# Altium schematic symbol library IC Logic.SchLib: 17 symbols
Pins are listed as number, name and electrical type; pins without a type are passive.

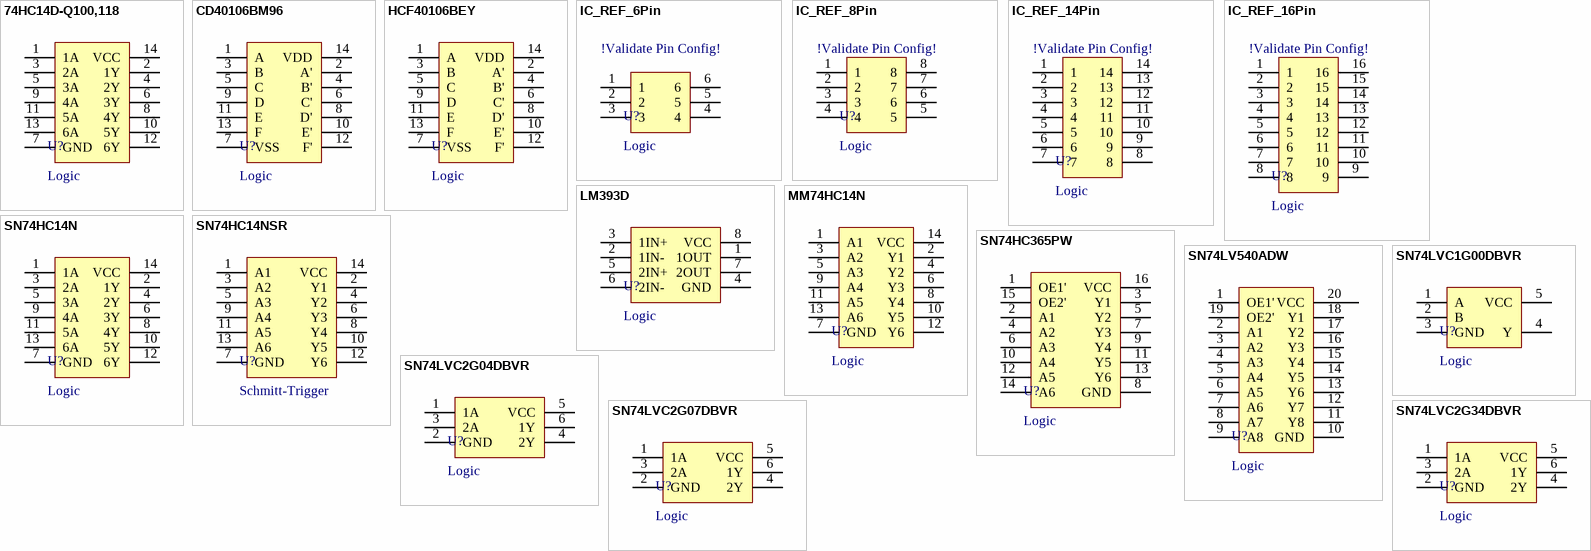
[diagram p0: symbols 74HC14D-Q100,118 to SN74LVC2G34DBVR]

## 74HC14D-Q100,118
designator U?, comment Logic
IC INVERTER SCHMITT 6CH 14SO; ManufacturerReference: 74HC14D-Q100,118; Manufacturer: Nexperia USA Inc.; InventoryNumber: IC053; Distributor: Digikey; DistributorReference: 1727-1029-1-ND; PackageReference: 14SOIC-3.9mmWidth
footprint 14SOIC-3.9mmWidth ON Semiconductor (SOIC, 14-Leads, Body 8.56x3.98mm, Pitch 1.27mm, IPC High Density)
pins: 1 1A, 2 1Y, 3 2A, 4 2Y, 5 3A, 6 3Y, 7 GND, 8 4Y, 9 4A, 10 5Y, 11 5A, 12 6Y, 13 6A, 14 VCC

## CD40106BM96
designator U?, comment Logic
IC INVERTER 6CH 6-INP 14SOIC; ManufacturerReference: CD40106BM96; Manufacturer: Texas Instruments; InventoryNumber: IC051; Distributor: Digikey; DistributorReference: 296-14081-2-ND; PackageReference: 14SOIC-3.9mmWidth
footprint 14SOIC-3.9mmWidth ON Semiconductor (SOIC, 14-Leads, Body 8.56x3.98mm, Pitch 1.27mm, IPC High Density)
pins: 1 A, 2 A', 3 B, 4 B', 5 C, 6 C', 7 VSS, 8 D', 9 D, 10 E', 11 E, 12 F', 13 F, 14 VDD

## HCF40106BEY
designator U?, comment Logic
IC INVERTER SCHMITT 6CH 14DIP; ManufacturerReference: HCF40106BEY; Manufacturer: STMicroelectronics; InventoryNumber: IC055; Distributor: Digikey; DistributorReference: 497-1342-5-ND; PackageReference: 14DIP-7.1mmWidth
footprint DIP14-7.1mmWidth STMicroelectronics
pins: 1 A, 2 A', 3 B, 4 B', 5 C, 6 C', 7 VSS, 8 D', 9 D, 10 E', 11 E, 12 F', 13 F, 14 VDD

## IC_REF_6Pin
designator U?, comment Logic
Distributor: Digikey; DistributorReference: *; InventoryNumber: *; PackageReference: *; ManufacturerReference: *; Manufacturer: *
pins: 1, 2, 3, 4, 5, 6
text: !Validate Pin Config!

## IC_REF_8Pin
designator U?, comment Logic
Distributor: Digikey; DistributorReference: *; InventoryNumber: *; PackageReference: *; ManufacturerReference: *; Manufacturer: *
pins: 1, 2, 3, 4, 5, 6, 7, 8
text: !Validate Pin Config!

## IC_REF_14Pin
designator U?, comment Logic
Distributor: Digikey; DistributorReference: *; InventoryNumber: *; PackageReference: *; ManufacturerReference: *; Manufacturer: *
pins: 1, 2, 3, 4, 5, 6, 7, 8, 9, 10, 11, 12, 13, 14
text: !Validate Pin Config!

## IC_REF_16Pin
designator U?, comment Logic
Distributor: Digikey; DistributorReference: *; InventoryNumber: *; PackageReference: *; ManufacturerReference: *; Manufacturer: *
pins: 1, 2, 3, 4, 5, 6, 7, 8, 9, 10, 11, 12, 13, 14, 15, 16
text: !Validate Pin Config!

## LM393D
designator U?, comment Logic
IC DUAL DIFF COMP 8-SOIC; ManufacturerReference: LMV393D; Manufacturer: Texas Instruments; InventoryNumber: IC209; Distributor: Digikey; DistributorReference: 296-1015-5-ND; PackageReference: 8SOIC-3.9mmWidth
footprint 8SOIC-3.9mmWidth (SOIC, 8-Leads, Body 4.90x3.90mm, Pitch 1.27mm, IPC High Density)
pins: 1 1OUT, 2 1IN-, 3 1IN+, 4 GND, 5 2IN+, 6 2IN-, 7 2OUT, 8 VCC

## MM74HC14N
designator U?, comment Logic
IC INVERTER SCHMITT 6CH 14DIP; ManufacturerReference: MM74HC14N; Manufacturer: ON Semiconductor; InventoryNumber: IC052; Distributor: Digikey; DistributorReference: MM74HC14N-ND; PackageReference: 14DIP-7.62mmWidth
footprint DIP14-7.1mmWidth STMicroelectronics
pins: 1 A1, 2 Y1, 3 A2, 4 Y2, 5 A3, 6 Y3, 7 GND, 8 Y4, 9 A4, 10 Y5, 11 A5, 12 Y6, 13 A6, 14 VCC

## SN74HC14N
designator U?, comment Logic
IC INVERTER SCHMITT 6CH 14DIP; ManufacturerReference: SN74HC14N; Manufacturer: Texas Instruments; InventoryNumber: IC054; Distributor: Digikey; DistributorReference: 296-1577-5-ND; PackageReference: 14DIP-7.62mmWdith
footprint DIP14-7.1mmWidth STMicroelectronics
pins: 1 1A, 2 1Y, 3 2A, 4 2Y, 5 3A, 6 3Y, 7 GND, 8 4Y, 9 4A, 10 5Y, 11 5A, 12 6Y, 13 6A, 14 VCC

## SN74HC14NSR
designator U?, comment Schmitt-Trigger
IC HEX INVERTER SHMT-TRGR 14SO; ManufacturerReference: SN74HC14NSR; Manufacturer: Texas Instruments; InventoryNumber: IC050; Distributor: Digikey; DistributorReference: 296-12887-2-ND; PackageReference: 14SOP-5.3mmWidth
footprint 14SOIC-5.3mmWidth Texas Instruments (SOIC, 14-Leads, Body 10.20x5.30mm, Pitch 1.27mm, IPC High Density)
pins: 1 A1, 2 Y1, 3 A2, 4 Y2, 5 A3, 6 Y3, 7 GND, 8 Y4, 9 A4, 10 Y5, 11 A5, 12 Y6, 13 A6, 14 VCC

## SN74HC365PW
designator U?, comment Logic
IC BUFFER NON-INVERT 6V 16TSSOP; ManufacturerReference: SN74HC365PW; Manufacturer: Texas Instruments; InventoryNumber: IC224; Distributor: Digikey; DistributorReference: 296-33932-5-ND; PackageReference: 16-TSSOP-4.4mmWidth
footprint 16TSSOP-4.4mmWidth Texas Instruments (TSOP, 16-Leads, Body 5.00x4.40mm, Pitch 0.65mm, IPC High Density)
pins: 1 OE1', 2 A1, 3 Y1, 4 A2, 5 Y2, 6 A3, 7 Y3, 8 GND, 9 Y4, 10 A4, 11 Y5, 12 A5, 13 Y6, 14 A6, 15 OE2', 16 VCC

## SN74LV540ADW
designator U?, comment Logic
IC BUFFER INVERT 5.5V 20SOIC; ManufacturerReference: SN74LV540ADW; Manufacturer: Texas Instruments; InventoryNumber: IC048; Distributor: Digikey; DistributorReference: 296-34059-5-ND; PackageReference: 20SOIC-7.5mmWidth
footprint 20SOIC-7.5mmWidth Texas Instruments (SOIC, 20-Leads, Body 12.80x7.50mm, Pitch 1.27mm, IPC High Density)
pins: 1 OE1', 2 A1, 3 A2, 4 A3, 5 A4, 6 A5, 7 A6, 8 A7, 9 A8, 10 GND, 11 Y8, 12 Y7, 13 Y6, 14 Y5, 15 Y4, 16 Y3, 17 Y2, 18 Y1, 19 OE2', 20 VCC

## SN74LVC1G00DBVR
designator U?, comment Logic
IC GATE NAND 1CH 2-INP SOT23-5; ManufacturerReference: SN74LVC1G00DBVR; Manufacturer: Texas Instruments; InventoryNumber: IC058; Distributor: Digikey; DistributorReference: 296-9845-1-ND; PackageReference: SOT23-5-1.6mmWidth
footprint SOT23-5-1.6mmWidth Texas Instruments (SOT23, 5-Leads, Body 2.90x1.60mm, Pitch 0.95mm, IPC High Density)
pins: 1 A, 2 B, 3 GND, 4 Y, 5 VCC

## SN74LVC2G04DBVR
designator U?, comment Logic
IC INVERTER 2CH 2-INP SOT23-6; ManufacturerReference: SN74LVC2G04DBVR; Manufacturer: Texas Instruments; InventoryNumber: IC049; Distributor: Digikey; DistributorReference: 296-13261-1-ND; PackageReference: SOT23-6-1.6mmWidth
footprint SOT23-6-1.6mmWidth Texas Instruments (SOT23, 6-Leads, Body 2.90x1.60mm, Pitch 0.95mm, IPC High Density)
pins: 1 1A, 2 GND, 3 2A, 4 2Y, 5 VCC, 6 1Y

## SN74LVC2G07DBVR
designator U?, comment Logic
IC BUF NON-INVERT 5.5V SOT23-6; ManufacturerReference: SN74LVC2G07DBVR; Manufacturer: Texas Instruments; InventoryNumber: IC056; Distributor: Digikey; DistributorReference: 296-13494-1-ND; PackageReference: SOT23-6-1.6mmWidth
footprint SOT23-6-1.6mmWidth Texas Instruments (SOT23, 6-Leads, Body 2.90x1.60mm, Pitch 0.95mm, IPC High Density)
pins: 1 1A, 2 GND, 3 2A, 4 2Y, 5 VCC, 6 1Y

## SN74LVC2G34DBVR
designator U?, comment Logic
IC BUF NON-INVERT 5.5V SOT23-6; ManufacturerReference: SN74LVC2G34DBVR; Manufacturer: Texas Instruments; InventoryNumber: IC057; Distributor: Digikey; DistributorReference: 296-13496-1-ND; PackageReference: SOT23-6-1.6mmWidth
footprint SOT23-6-1.6mmWidth Texas Instruments (SOT23, 6-Leads, Body 2.90x1.60mm, Pitch 0.95mm, IPC High Density)
pins: 1 1A, 2 GND, 3 2A, 4 2Y, 5 VCC, 6 1Y